# EAGLE library part APA102 (library dpx-LED)
SparkFun Accessories SMD LED - RGB APA102-2020 COM-14608 Source: Datasheet <https://componentsearchengine.com/Datasheets/1/COM-14608.pdf>
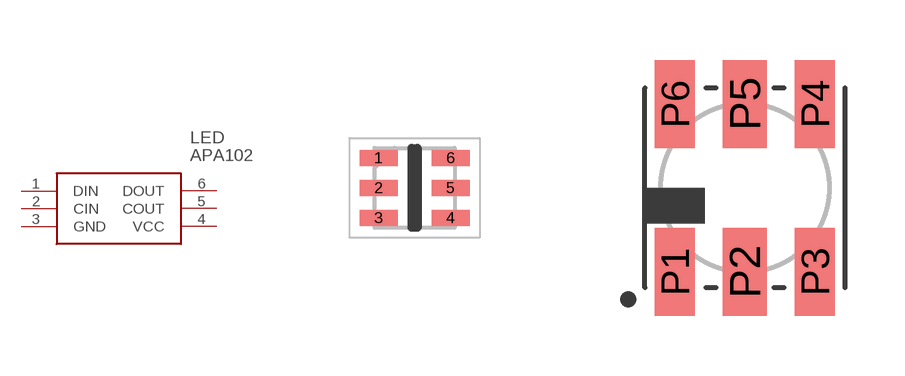
[diagram p0: symbol with the pads of LED2020; footprints LED2020, APA102-5050]

Designator prefix LED

## APA1022020 (ARROW_PART_NUMBER: COM-14608; ARROW_PRICE-STOCK: https://www.arrow.com/en/products/com-14608/sparkfun-electronics; DESCRIPTION: SparkFun Accessories SMD LED - RGB APA102-2020; HEIGHT: 1mm; MANUFACTURER_NAME: SparkFun; MANUFACTURER_PART_NUMBER: COM-14608; MOUSER_PART_NUMBER: 474-COM-14608; MOUSER_PRICE-STOCK: https://www.mouser.co.uk/ProductDetail/SparkFun/COM-14608?qs=r5DSvlrkXmJkrH4K3yuA0g%3D%3D)  [LED2020]
1  DIN
2  CIN
3  GND
4  VCC
5  COUT
6  DOUT

## APA1025050  [APA102-5050]
P1  DIN
P2  CIN
P3  GND
P4  VCC
P5  COUT
P6  DOUT

## Footprint LED2020 (pad centres in mm)
COM-14608
smd 0.95 x 0.4: 1 -0.9,0.75; 2 -0.9,0; 3 -0.9,-0.75; 4 0.9,-0.75; 5 0.9,0; 6 0.9,0.75

## Footprint APA102-5050 (pad centres in mm)
APA102C Specifications: Pin count: 6 Size: 5.0 x 5.0 mm Datasheet referenced for footprint: APA102C <https://cdn.sparkfun.com/datasheets/Components/LED/APA102C.pdf>
smd 1 x 2.2: P1 -1.75,-2.1; P3 1.75,-2.1; P4 1.75,2.1; P6 -1.75,2.1
smd 1.1 x 2.2: P2 0,-2.1; P5 0,2.1